# EAGLE library part TLC556 (library TEABOX-LIB)
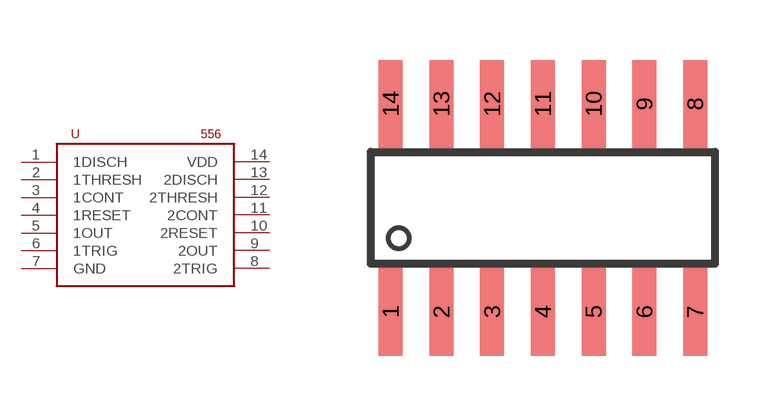
[diagram p28: symbol with the pads of SO14; footprint SO14]

Designator prefix U

## TLC556D  [SO14]
1  1DISCH
2  1THRESH
3  1CONT
4  1RESET
5  1OUT
6  1TRIG
7  GND
8  2TRIG
9  2OUT
10  2RESET
11  2CONT
12  2THRESH
13  2DISCH
14  VDD

## Footprint SO14 (pad centres in mm)
Small Outline Package 14
smd 0.6 x 2.2: 1 -3.81,-2.6; 2 -2.54,-2.6; 3 -1.27,-2.6; 4 0,-2.6; 5 1.27,-2.6; 6 2.54,-2.6; 7 3.81,-2.6; 8 3.81,2.6; 9 2.54,2.6; 10 1.27,2.6; 11 0,2.6; 12 -1.27,2.6; 13 -2.54,2.6; 14 -3.81,2.6